# Altium schematic symbol library current sensor.SchLib: 1 symbol
Pins are listed as number, name and electrical type; pins without a type are passive.

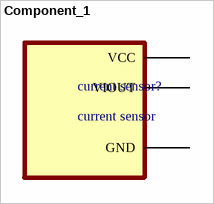
[diagram p0: symbol Component_1]

## Component_1
designator current sensor?, comment current sensor
ACS712--30A
footprint PCBComponent_1
pins: GND, OUT VIOUT, VCC